# EAGLE library part HEADER-2X8P (library Deegou_Connector)
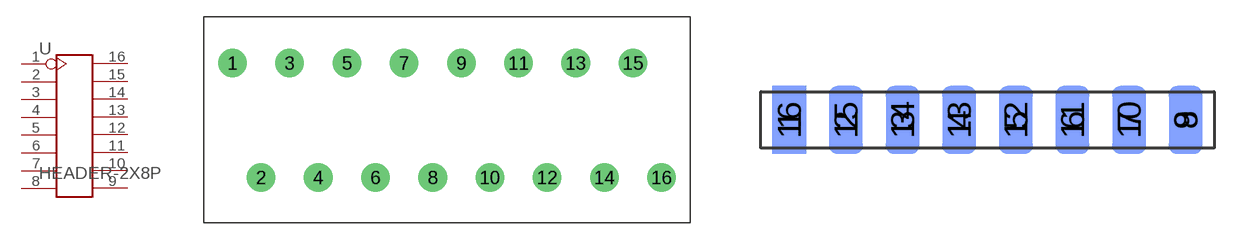
[diagram p4: symbol with the pads of 2X8P-5.08; footprints 2X8P-5.08, 16P-2.54-SMD]

Designator prefix -

## HEADER-2X8P  [2X8P-5.08]
1  1
2  2
3  3
4  4
5  5
6  6
7  7
8  8
9  9
10  10
11  11
12  12
13  13
14  14
15  15
16  16

## HEADER-2X8P-2.54  [16P-2.54-SMD]
Pads as for 2X8P-5.08

## Footprint 2X8P-5.08 (pad centres in mm)
drill 1.4 pad 2.54: 1 -19.05,5.08; 2 -16.51,-5.08; 3 -13.97,5.08; 4 -11.43,-5.08; 5 -8.89,5.08; 6 -6.35,-5.08; 7 -3.81,5.08; 8 -1.27,-5.08; 9 1.27,5.08; 10 3.81,-5.08; 11 6.35,5.08; 12 8.89,-5.08; 13 11.43,5.08; 14 13.97,-5.08; 15 16.51,5.08; 16 19.05,-5.08

## Footprint 16P-2.54-SMD (pad centres in mm)
smd 1.524 x 3.048: 1 -8.89,0; 2 -6.35,0; 3 -3.81,0; 4 -1.27,0; 5 1.27,0; 6 3.81,0; 7 6.35,0; 8 8.89,0
smd 1.524 x 3.048 bottom: 9 8.89,0; 10 6.35,0; 11 3.81,0; 12 1.27,0; 13 -1.27,0; 14 -3.81,0; 15 -6.35,0; 16 -8.89,0